# EAGLE library part ICS525-01 (library IC)
ICS525-01 User Configurable Clock
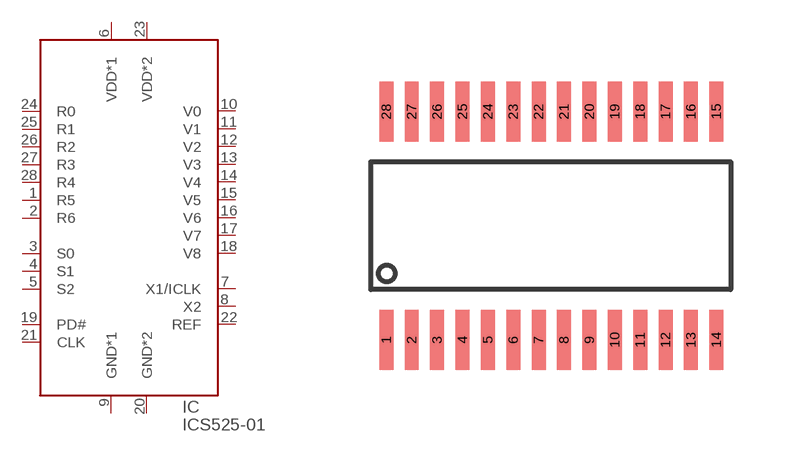
[diagram p18: symbol with the pads of SSOP28N; footprint SSOP28N]

Designator prefix IC

## ICS525-01R  [SSOP28N]
1  R5  in
2  R6  in
3  S0  in
4  S1  in
5  S2  in
6  VDD*1  pwr
7  X1/ICLK  in
8  X2  in
9  GND*1  pwr
10  V0  in
11  V1  in
12  V2  in
13  V3  in
14  V4  in
15  V5  in
16  V6  in
17  V7  in
18  V8  in
19  PD#  in
20  GND*2  pwr
21  CLK  in
22  REF  in
23  VDD*2  pwr
24  R0  in
25  R1  in
26  R2  in
27  R3  in
28  R4  in

## Footprint SSOP28N (pad centres in mm)
28 pin narrow SSOP, 0.025" lead pitch
smd 0.35 x 1.5: 1 -4.128,-2.857; 2 -3.493,-2.857; 3 -2.857,-2.857; 4 -2.223,-2.857; 5 -1.587,-2.857; 6 -0.953,-2.857; 7 -0.318,-2.857; 8 0.318,-2.857; 9 0.953,-2.857; 10 1.587,-2.857; 11 2.223,-2.857; 12 2.857,-2.857; 13 3.493,-2.857; 14 4.128,-2.857; 15 4.128,2.857; 16 3.493,2.857; 17 2.857,2.857; 18 2.223,2.857; 19 1.587,2.857; 20 0.953,2.857; 21 0.318,2.857; 22 -0.318,2.857; 23 -0.953,2.857; 24 -1.587,2.857; 25 -2.223,2.857; 26 -2.857,2.857; 27 -3.493,2.857; 28 -4.128,2.857